# EAGLE library part LORA-02-SX1278 (library FansElectronics-Modul)
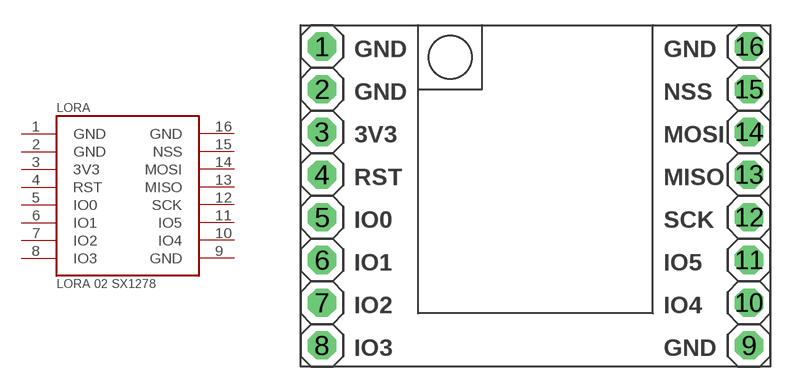
[diagram p27: symbol with the pads of LORA-02-SX1278; footprint LORA-02-SX1278]

Designator prefix LORA

## LORA-02-SX1278  [LORA-02-SX1278]
1  GND  pwr
2  GND  pwr
3  3V3  pwr
4  RST
5  IO0
6  IO1
7  IO2
8  IO3
9  GND  pwr
10  IO4
11  IO5
12  SCK
13  MISO
14  MOSI
15  NSS
16  GND  pwr

## Footprint LORA-02-SX1278 (pad centres in mm)
drill 1.016 pad 1.676 octagon: 1 -12.7,8.89; 2 -12.7,6.35; 3 -12.7,3.81; 4 -12.7,1.27; 5 -12.7,-1.27; 6 -12.7,-3.81; 7 -12.7,-6.35; 8 -12.7,-8.89; 9 12.7,-8.89; 10 12.7,-6.35; 11 12.7,-3.81; 12 12.7,-1.27; 13 12.7,1.27; 14 12.7,3.81; 15 12.7,6.35; 16 12.7,8.89